# EAGLE library part PIC24FJXXGA006 (library pic24gagb)
PIC24FJxxGA006
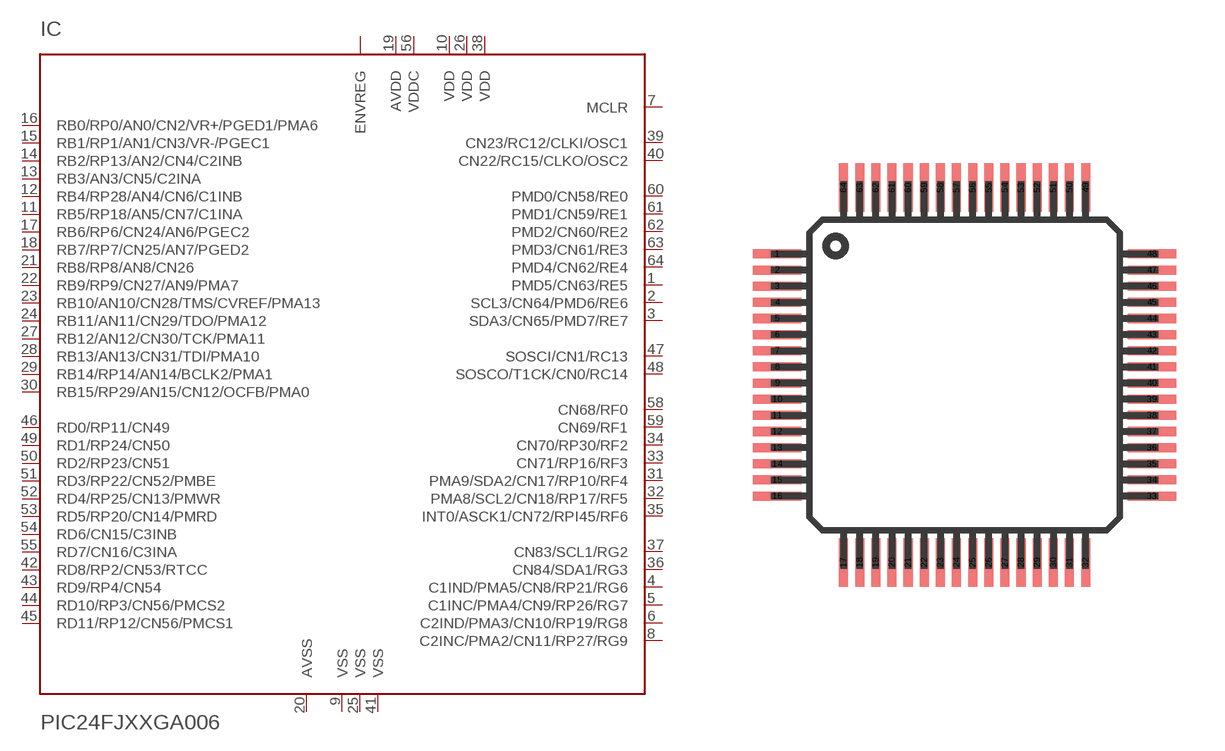
[diagram p0: symbol with the pads of TQFP64-10X10; footprint TQFP64-10X10]

Designator prefix IC

## PIC24FJXXGA006/PT  [TQFP64-10X10]
1  PMD5/CN63/RE5
2  SCL3/CN64/PMD6/RE6
3  SDA3/CN65/PMD7/RE7
4  C1IND/PMA5/CN8/RP21/RG6
5  C1INC/PMA4/CN9/RP26/RG7
6  C2IND/PMA3/CN10/RP19/RG8
7  MCLR  in
8  C2INC/PMA2/CN11/RP27/RG9
9  VSS  pwr
10  VDD  pwr
11  RB5/RP18/AN5/CN7/C1INA
12  RB4/RP28/AN4/CN6/C1INB
13  RB3/AN3/CN5/C2INA
14  RB2/RP13/AN2/CN4/C2INB
15  RB1/RP1/AN1/CN3/VR-/PGEC1
16  RB0/RP0/AN0/CN2/VR+/PGED1/PMA6
17  RB6/RP6/CN24/AN6/PGEC2
18  RB7/RP7/CN25/AN7/PGED2
19  AVDD  pwr
20  AVSS  pwr
21  RB8/RP8/AN8/CN26
22  RB9/RP9/CN27/AN9/PMA7
23  RB10/AN10/CN28/TMS/CVREF/PMA13
24  RB11/AN11/CN29/TDO/PMA12
25  VSS  pwr
26  VDD  pwr
27  RB12/AN12/CN30/TCK/PMA11
28  RB13/AN13/CN31/TDI/PMA10
29  RB14/RP14/AN14/BCLK2/PMA1
30  RB15/RP29/AN15/CN12/OCFB/PMA0
31  PMA9/SDA2/CN17/RP10/RF4
32  PMA8/SCL2/CN18/RP17/RF5
33  CN71/RP16/RF3
34  CN70/RP30/RF2
35  INT0/ASCK1/CN72/RPI45/RF6
36  CN84/SDA1/RG3
37  CN83/SCL1/RG2
38  VDD  pwr
39  CN23/RC12/CLKI/OSC1
40  CN22/RC15/CLKO/OSC2
41  VSS  pwr
42  RD8/RP2/CN53/RTCC
43  RD9/RP4/CN54
44  RD10/RP3/CN56/PMCS2
45  RD11/RP12/CN56/PMCS1
46  RD0/RP11/CN49
47  SOSCI/CN1/RC13
48  SOSCO/T1CK/CN0/RC14
49  RD1/RP24/CN50
50  RD2/RP23/CN51
51  RD3/RP22/CN52/PMBE
52  RD4/RP25/CN13/PMWR
53  RD5/RP20/CN14/PMRD
54  RD6/CN15/C3INB
55  RD7/CN16/C3INA
56  VDDC  pwr
57  ENVREG  pwr
58  CN68/RF0
59  CN69/RF1
60  PMD0/CN58/RE0
61  PMD1/CN59/RE1
62  PMD2/CN60/RE2
63  PMD3/CN61/RE3
64  PMD4/CN62/RE4

## Footprint TQFP64-10X10 (pad centres in mm)
Thin Quad Flat Pack package type TQ
smd 1.5 x 0.28: 1 -5.8,3.75; 2 -5.8,3.25; 3 -5.8,2.75; 4 -5.8,2.25; 5 -5.8,1.75; 6 -5.8,1.25; 7 -5.8,0.75; 8 -5.8,0.25; 9 -5.8,-0.25; 10 -5.8,-0.75; 11 -5.8,-1.25; 12 -5.8,-1.75; 13 -5.8,-2.25; 14 -5.8,-2.75; 15 -5.8,-3.25; 16 -5.8,-3.75; 33 5.8,-3.75; 34 5.8,-3.25; 35 5.8,-2.75; 36 5.8,-2.25; 37 5.8,-1.75; 38 5.8,-1.25; 39 5.8,-0.75; 40 5.8,-0.25; 41 5.8,0.25; 42 5.8,0.75; 43 5.8,1.25; 44 5.8,1.75; 45 5.8,2.25; 46 5.8,2.75; 47 5.8,3.25; 48 5.8,3.75
smd 0.28 x 1.5: 17 -3.75,-5.8; 18 -3.25,-5.8; 19 -2.75,-5.8; 20 -2.25,-5.8; 21 -1.75,-5.8; 22 -1.25,-5.8; 23 -0.75,-5.8; 24 -0.25,-5.8; 25 0.25,-5.8; 26 0.75,-5.8; 27 1.25,-5.8; 28 1.75,-5.8; 29 2.25,-5.8; 30 2.75,-5.8; 31 3.25,-5.8; 32 3.75,-5.8; 49 3.75,5.8; 50 3.25,5.8; 51 2.75,5.8; 52 2.25,5.8; 53 1.75,5.8; 54 1.25,5.8; 55 0.75,5.8; 56 0.25,5.8; 57 -0.25,5.8; 58 -0.75,5.8; 59 -1.25,5.8; 60 -1.75,5.8; 61 -2.25,5.8; 62 -2.75,5.8; 63 -3.25,5.8; 64 -3.75,5.8